# Altium footprint library CONN-50mil-10POS-SMD.PcbLib: 1 footprints
Each footprint in its own frame and in the unit in brackets; x right, y up, seen from the top. Pads: shape width x height; smd on the part's side, far side on the other; paste and mask are expansions set on the pad; w line width, h text height; cw(c..) or ccw(c..) is an arc to the next point about the centre after c.
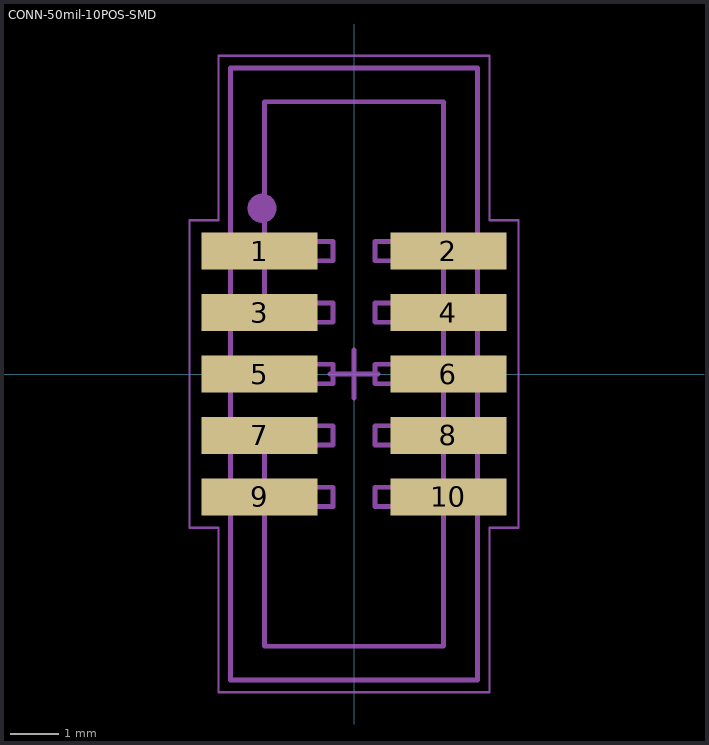
[diagram p0: the footprint, top view; thin cyan lines are the x and y axes]

## CONN-50mil-10POS-SMD [mm] "50mil 10POS 2ROW SMT HEADER"
pads (10):
  rect 2.4x0.76 smd: 1(-1.95,2.54) 2(1.95,2.54) 3(-1.95,1.27) 4(1.95,1.27) 5(-1.95,0) 6(1.95,0) 7(-1.95,-1.27) 8(1.95,-1.27) 9(-1.95,-2.54) 10(1.95,-2.54)
Mechanical 6:
  text "'.Designator'" at -1.375,-0.325 h0.6
Mechanical 8:
  circle w0.3: c-1.9,3.425 r0.15
  lines w0.05: -3.4,-3.175 -3.4,3.175 -2.8,3.175 -2.8,6.575 2.8,6.575 2.8,3.175 3.4,3.175 3.4,-3.175 2.8,-3.175 2.8,-6.575 -2.8,-6.575 -2.8,-3.175 -3.4,-3.175
Mechanical 13:
  lines w0.1: -2.55,-2.75 -2.75,-2.75 -2.75,-2.35 -2.55,-2.35 ; -2.55,-1.475 -2.75,-1.475 -2.75,-1.075 -2.55,-1.075 ; -2.55,-1.175 -1.85,-1.175 -1.85,-5.625 ; -2.55,-0.2 -2.75,-0.2 -2.75,0.2 -2.55,0.2 ; -2.55,1.075 -2.75,1.075 -2.75,1.475 -2.55,1.475 ; -2.55,1.175 -1.85,1.175 -1.85,5.625 ; -2.55,2.325 -2.75,2.325 -2.75,2.725 -2.55,2.725 ; 2.55,-2.75 2.75,-2.75 2.75,-2.35 2.55,-2.35 ; 2.55,-1.475 2.75,-1.475 2.75,-1.075 2.55,-1.075 ; 2.55,-0.2 2.75,-0.2 2.75,0.2 2.55,0.2 ; 2.55,1.075 2.75,1.075 2.75,1.475 2.55,1.475 ; 2.55,2.325 2.75,2.325 2.75,2.725 2.55,2.725 ; -1.85,-5.625 -1.85,-5.625 ; -1.85,-5.625 1.85,-5.625 ; -1.85,-5.625 -1.85,-5.625 ; -1.85,5.625 1.85,5.625 ; -1.85,5.625 -1.85,5.625 ; 1.85,-5.625 1.85,5.625 ; 1.85,-5.625 1.85,-5.625 ; 1.85,5.625 1.85,5.625 ; -2.55,-6.325 2.55,-6.325 2.55,6.325 -2.55,6.325 -2.55,-6.325 ; -0.835,-2.74 -0.435,-2.74 -0.435,-2.34 -0.835,-2.34 -0.835,-2.74 ; -0.835,-1.47 -0.435,-1.47 -0.435,-1.07 -0.835,-1.07 -0.835,-1.47 ; -0.835,-0.2 -0.435,-0.2 -0.435,0.2 -0.835,0.2 -0.835,-0.2 ; -0.835,1.07 -0.435,1.07 -0.435,1.47 -0.835,1.47 -0.835,1.07 ; -0.835,2.34 -0.435,2.34 -0.435,2.74 -0.835,2.74 -0.835,2.34 ; 0.435,-2.74 0.835,-2.74 0.835,-2.34 0.435,-2.34 0.435,-2.74 ; 0.435,-1.47 0.835,-1.47 0.835,-1.07 0.435,-1.07 0.435,-1.47 ; 0.435,-0.2 0.835,-0.2 0.835,0.2 0.435,0.2 0.435,-0.2 ; 0.435,1.07 0.835,1.07 0.835,1.47 0.435,1.47 0.435,1.07 ; 0.435,2.34 0.835,2.34 0.835,2.74 0.435,2.74 0.435,2.34
Mechanical 15:
  lines w0.05: -3.4,-3.175 -3.4,3.175 -2.8,3.175 -2.8,6.575 2.8,6.575 2.8,3.175 3.4,3.175 3.4,-3.175 2.8,-3.175 2.8,-6.575 -2.8,-6.575 -2.8,-3.175 -3.4,-3.175
  lines w0.1: -0.5,0 0.5,0 ; 0,-0.5 0,0.5
3D body "3220-10-0300.stp": height 5.57, standoff -0.03, extent -2.75,-6.325 2.75,6.325